# Altium schematic symbol library PCIe x4.SchLib: 5 symbols
Pins are listed as number, name and electrical type; pins without a type are passive.

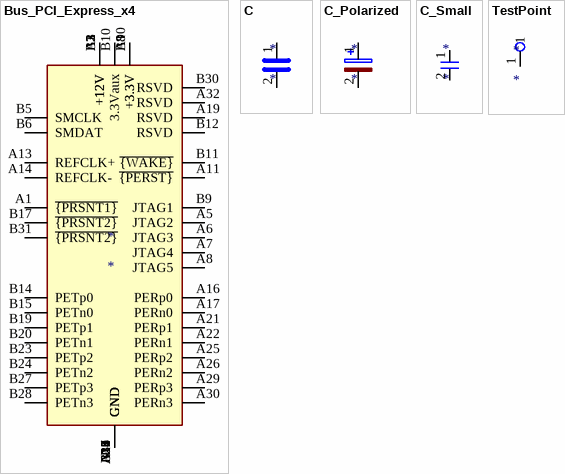
[diagram p0: symbols Bus_PCI_Express_x4 to TestPoint]

## Bus_PCI_Express_x4
designator *
pins: A1 ~{{PRSNT1}}, A2 +12V, A3 +12V, A4 GND, A5 JTAG2, A6 JTAG3, A7 JTAG4, A8 JTAG5, A9 +3.3V, A10 +3.3V, A11 ~{{PERST}}, A12 GND, A13 REFCLK+, A14 REFCLK-, A15 GND, A16 PERp0, A17 PERn0, A18 GND, A19 RSVD, A20 GND, A21 PERp1, A22 PERn1, A23 GND, A24 GND, A25 PERp2, A26 PERn2, A27 GND, A28 GND, A29 PERp3, A30 PERn3, A31 GND, A32 RSVD, B1 +12V, B2 +12V, B3 +12V, B4 GND, B5 SMCLK, B6 SMDAT, B7 GND, B8 +3.3V, B9 JTAG1, B10 3.3Vaux, B11 ~{{WAKE}}, B12 RSVD, B13 GND, B14 PETp0, B15 PETn0, B16 GND, B17 ~{{PRSNT2}}, B18 GND, B19 PETp1, B20 PETn1, B21 GND, B22 GND, B23 PETp2, B24 PETn2, B25 GND, B26 GND, B27 PETp3, B28 PETn3, B29 GND, B30 RSVD, B31 ~{{PRSNT2}}, B32 GND

## C
designator *
pins: 1, 2

## C_Polarized
designator *
pins: 1, 2

## C_Small
designator *
pins: 1, 2

## TestPoint
designator *
pins: 1